# Altium footprint library HVPSlibrary.PcbLib: 149 footprints (part 5 of 11)
Each footprint in its own frame and in the unit in brackets; x right, y up, seen from the top. Pads: shape width x height; smd on the part's side, far side on the other; paste and mask are expansions set on the pad; w line width, h text height; cw(c..) or ccw(c..) is an arc to the next point about the centre after c.
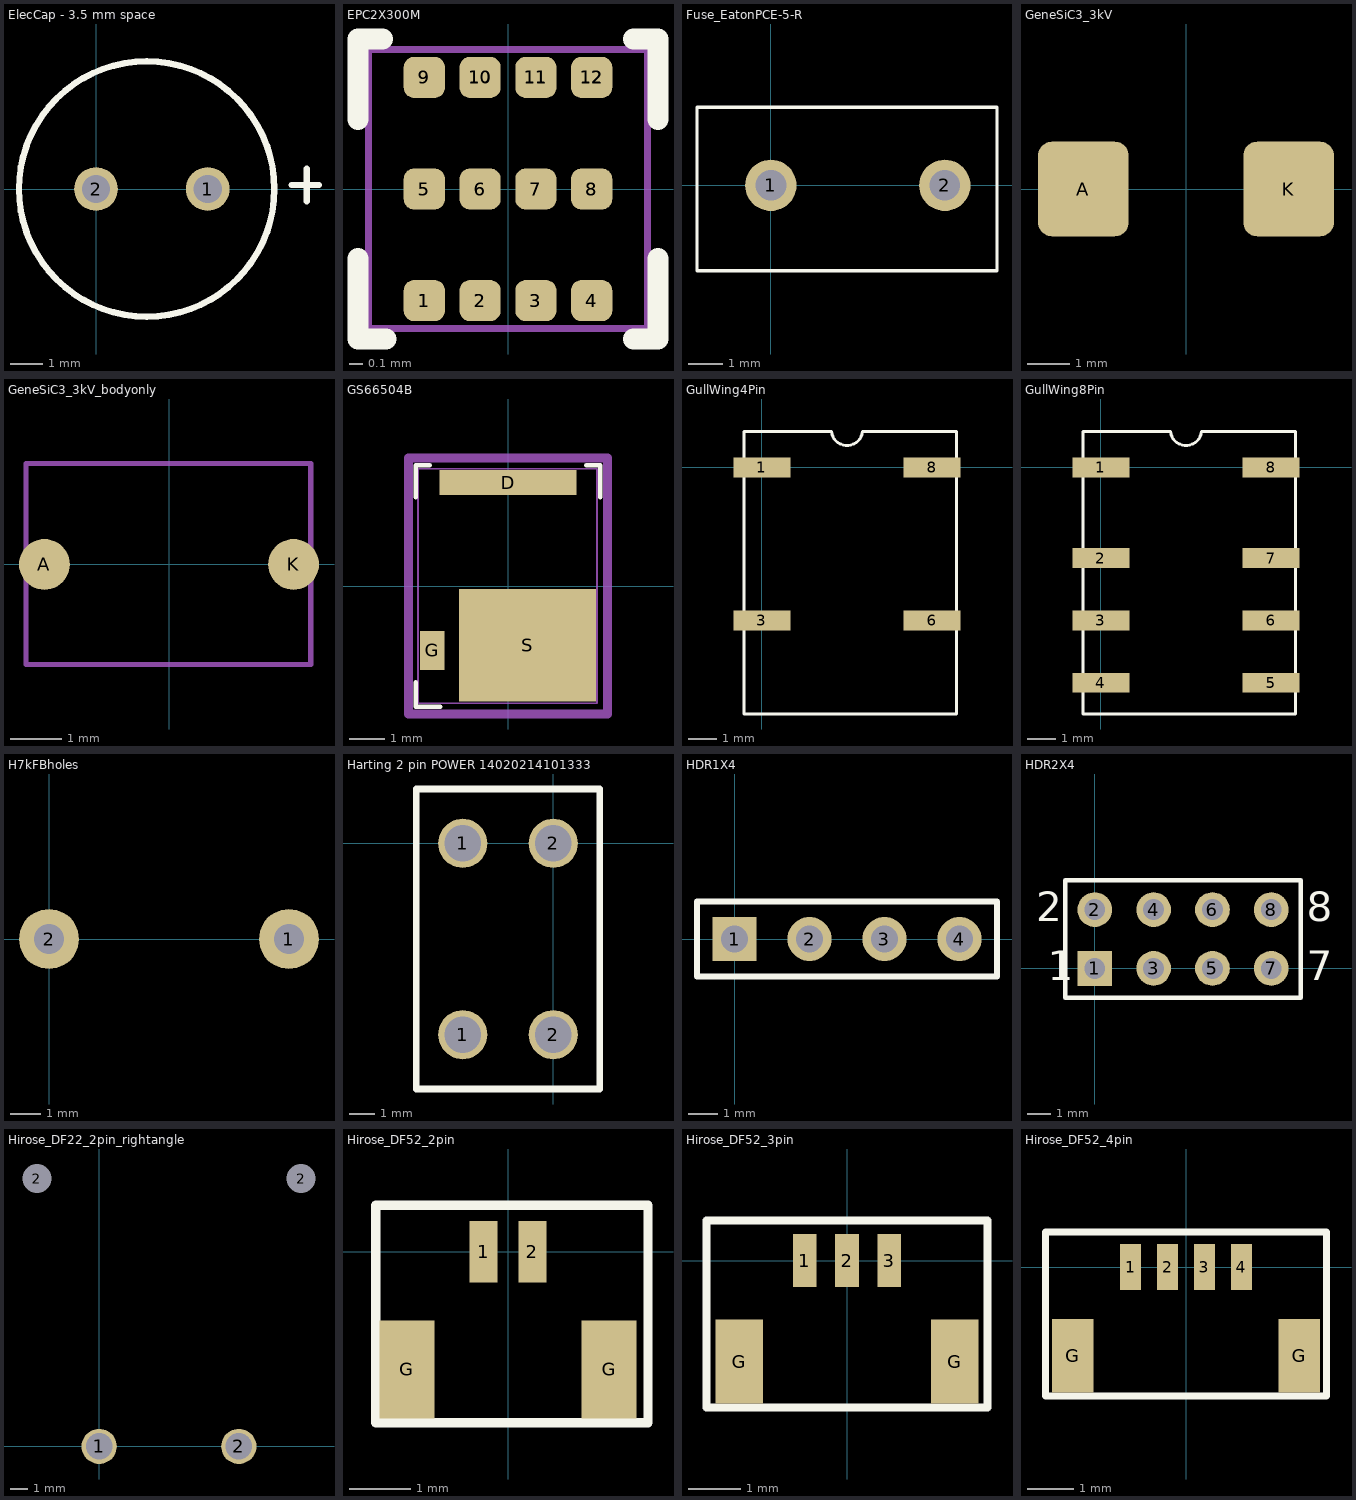
[diagram p4: the footprints below, top view; thin cyan lines are the x and y axes]

## ElecCap - 3.5 mm space [mil]
pads (2):
  round 54 hole 35: 1(137.8,0) 2(0,0)
Top Overlay:
  circle w7.87: c62.52,0 r157.48
  lines w7.87: 241.46,5 275,5 ; 260,-15 260,25
3D body: height 708.66, standoff 0, extent -91.24,-162.17 222.48,152.17

## EPC2X300M [mm] "Micro SMD 2mm x 2mm 12pin BGA"
height 0.6
pads (24):
  rrect50% 0.295x0.295 smd paste-0.048 mask+0: 1(-0.6,-0.8) 2(-0.2,-0.8) 3(0.2,-0.8) 4(0.6,-0.8) 5(-0.6,0) 6(-0.2,0) 7(0.2,0) 8(0.6,0) 9(-0.6,0.8) 10(-0.2,0.8) 11(0.2,0.8) 12(0.6,0.8)
  round 0.2 on Top Solder paste+0 mask+0: 1(-0.6,-0.8) 2(-0.2,-0.8) 3(0.2,-0.8) 4(0.6,-0.8) 5(-0.6,0) 6(-0.2,0) 7(0.2,0) 8(0.6,0) 9(-0.6,0.8) 10(-0.2,0.8) 11(0.2,0.8) 12(0.6,0.8)
Top Overlay:
  lines w0.152: -1.075,-0.5 -1.075,-1.075 -0.875,-1.075 ; -1.075,0.5 -1.075,1.075 -0.9,1.075 ; 0.9,-1.075 1.075,-1.075 1.075,-0.5 ; 0.9,1.075 1.075,1.075 1.075,0.5
Mechanical 13:
  lines w0.05: -1,-1 1,-1 1,1 -1,1 -1,-1
3D body: height 0.5, standoff 0.1, extent -0.975,-1 1.005,1

## Fuse_EatonPCE-5-R [mm]
pads (2):
  round 1.5 hole 0.9: 1(0,0) 2(5.08,0)
Top Overlay:
  lines w0.1: -2.159,-2.5 6.604,-2.5 6.604,-1.235 6.604,2.286 -2.159,2.286 -2.159,-2.5

## GeneSiC3_3kV [mm]
pads (2):
  rrect30% 2.16x2.26 smd: A(-2.45,0) K(2.45,0)
3D body "DO-214AA.stp": height 2.65, standoff 0, extent -2.711,-1.968 2.889,1.981

## GeneSiC3_3kV_bodyonly [mm]
pads (2):
  round 1 smd: A(-2.45,0) K(2.45,0)
Mechanical 1:
  lines w0.102: -2.813,-1.968 2.787,-1.968 2.787,1.982 -2.813,1.982 -2.813,-1.968
3D body "DO-214AA.stp": height 2.65, standoff 0, extent -2.813,-1.968 2.787,1.982

## GS66504B [mm] "GAN TRANS E-MODE 650V"
height 0.45
pads (3):
  rect 3.86x0.7 smd: D(0,2.91)
  rect 0.7x1.1 smd: G(-2.13,-1.81)
  rect 3.86x3.17 smd: S(0.55,-1.67)
Top Overlay:
  lines w0.127: -2.6,-2.7 -2.6,-3.4 -1.9,-3.4 ; -2.6,2.5 -2.6,3.4 -2.2,3.4 ; 2.2,3.4 2.6,3.4 2.6,2.5
Mechanical 1:
  lines w0.05: -2.53,-3.3 2.5,-3.3 2.5,3.3 -2.53,3.3 -2.53,-3.3
Mechanical 5:
  lines w0.254: -2.8,-3.6 -2.8,3.6 2.8,3.6 2.8,-3.6 -2.8,-3.6
3D body: height 0.5, standoff 0, extent -2.5,-3.3 2.5,3.3

## GullWing4Pin [mm]
pads (4):
  rect 2x0.7 smd: 1(0,0) 3(0,-5.4) 6(6,-5.4) 8(6,0)
Top Overlay:
  lines w0.1: 2.413,1.27 1.905,1.27 -0.635,1.27 -0.635,-8.7 6.858,-8.7 6.858,1.27 3.556,1.27 3.55,1.264 cw(c3,1.331) 2.45,1.264
3D body "c-1462041-7-a-3d.stp": height 5.65, standoff 0, extent -0.702,-8.937 6.798,1.063

## GullWing8Pin [mm]
pads (8):
  rect 2x0.7 smd: 1(0,0) 2(0,-3.2) 3(0,-5.4) 4(0,-7.6) 5(6,-7.6) 6(6,-5.4) 7(6,-3.2) 8(6,0)
Top Overlay:
  lines w0.1: 2.413,1.27 1.905,1.27 -0.635,1.27 -0.635,-8.7 6.858,-8.7 6.858,1.27 3.556,1.27 3.55,1.264 cw(c3,1.331) 2.45,1.264
3D body "c-1462037-2-a-3d.stp": height 5.65, standoff 0, extent -0.837,-8.81 6.679,1.19

## H7kFBholes [mm] "High voltage side feedback holes"
pads (2):
  round 2 hole 1.016: 1(8,0) 2(0,0)

## Harting 2 pin POWER 14020214101333 [mm]
height 15
pads (4):
  round 1.9 hole 1.4: 1(-3.5,-7.4) 1(-3.5,0) 2(0,-7.4) 2(0,0)
Top Overlay:
  lines w0.254: -5.3,-9.5 -0.362,-9.5 1.8,-9.5 1.8,2.1 -4.064,2.1 -5.3,2.1 -5.3,-9.5
3D body "14020214101000_100531473MOD000A.STP": height 14.9, standoff -3.45, extent -5.258,-9.279 1.742,2.37

## HDR1X4 [mm] "Connector; Header; 4 Position"
pads (4):
  rect 1.5x1.5 hole 0.9: 1(0,0)
  round 1.5 hole 0.9: 2(2.54,0) 3(5.08,0) 4(7.62,0)
Top Overlay:
  lines w0.2: -1.27,-1.27 8.89,-1.27 8.89,1.27 -1.27,1.27 -1.27,-1.27

## HDR2X4 [mm] "Connector; Header; 4x2 Position"
pads (8):
  rect 1.5x1.5 hole 0.9: 1(0,0)
  round 1.5 hole 0.9: 2(0,2.54) 3(2.54,0) 4(2.54,2.54) 5(5.08,0) 6(5.08,2.54) 7(7.62,0) 8(7.62,2.54)
Top Overlay:
  lines w0.2: -1.27,-1.27 8.89,-1.27 8.89,3.81 -1.27,3.81 -1.27,-1.27
  text "2" at -2.54,2.032 h1.27
  text "1" at -2.032,-0.508 h1.27
  text "7" at 9.144,-0.508 h1.27
  text "8" at 9.144,2.032 h1.27

## Hirose_DF22_2pin_rightangle [mm]
pads (4):
  round 2 hole 1.5: 1(0,0) 2(7.92,0)
  round 1 hole 1.65 unplated: 2(-3.54,15.2) 2(11.46,15.2)
3D body "DF22R-2P-7.92DS.stp": height 13.56, standoff -2.34, extent -6.014,-5.166 13.786,18.834

## Hirose_DF52_2pin [mm]
pads (4):
  rect 0.45x1 smd: 1(-0.4,0) 2(0.4,0)
  rect 0.9x1.6 smd: G(-1.65,-1.92) G(1.65,-1.92)
Top Overlay:
  lines w0.152: -2.159,-2.794 -2.159,0.762 -0.889,0.762 0.889,0.762 2.286,0.762 2.286,-2.794 -2.159,-2.794
3D body "DF52-2S-0.8H.stp": height 1.65, standoff -0.1, extent -1.9,-2.54 1.9,0.23
3D body "DF52-2P-0.8C.stp": height 1.54, standoff -0.11, extent -1.75,-3.937 1.75,-0.737

## Hirose_DF52_3pin [mm]
pads (5):
  rect 0.45x1 smd: 1(-0.8,0) 2(0,0) 3(0.8,0)
  rect 0.9x1.6 smd: G(-2.05,-1.92) G(2.05,-1.92)
Top Overlay:
  lines w0.152: -2.667,-2.794 -2.667,0.762 -0.889,0.762 0.889,0.762 2.667,0.762 2.667,-2.794 -2.667,-2.794
3D body "DF52-3P-0.8C.stp": height 1.54, standoff -0.11, extent -2.141,-4.013 2.159,-0.813
3D body "DF52-3S-0.8H.stp": height 1.65, standoff -0.1, extent -2.3,-2.516 2.3,0.254

## Hirose_DF52_4pin [mm]
pads (6):
  rect 0.45x1 smd: 1(-1.2,0) 2(-0.4,0) 3(0.4,0) 4(1.2,0)
  rect 0.9x1.6 smd: G(-2.45,-1.92) G(2.45,-1.92)
Top Overlay:
  lines w0.152: -3.048,-2.794 -3.048,0.762 -0.889,0.762 0.889,0.762 3.048,0.762 3.048,-2.794 -3.048,-2.794
3D body "DF52-4P-0.8C.stp": height 1.54, standoff -0.11, extent -2.56,-3.937 2.54,-0.737
3D body "DF52-4S-0.8H.stp": height 1.65, standoff -0.1, extent -2.733,-2.516 2.667,0.254